# Altium schematic symbol library C_ALU_SMD.SchLib: 1 symbol
Pins are listed as number, name and electrical type; pins without a type are passive.

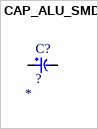
[diagram p0: symbol CAP_ALU_SMD]

## CAP_ALU_SMD
designator C?, comment ?
Aluminum Electrolytic Capacitors - SMD ROHS; Manufacturer: Panasonic; Manufacturer Part: *; Value: ?; ComponentLink1Description: Datasheet; ComponentLink1URL: https://industrial.panasonic.com/cdbs/www-data/pdf/RDE0000/RDE0000COL99.pdf; Voltage: *
footprint CAP AL SMD D4 H5.5 L5.8 (B)
footprint CAP AL SMD D5 H6.5 L5.8 (C)
footprint CAP AL SMD D6.3 H7.8 L5.8 (D)
footprint CAP AL SMD D6.3 H7.8 L7.7 (D8)
footprint CAP AL SMD D8 H9.5 L6.2 (E)
footprint CAP AL SMD D8 H10 L10.2 (F)
footprint CAP AL SMD D10 H12 L10.2 (G)
pins: 1, 2